# Altium schematic symbol library DG308-2.54-03P-14-00AH.SchLib: 1 symbol
Pins are listed as number, name and electrical type; pins without a type are passive.

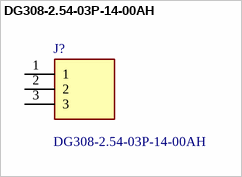
[diagram p0: symbol DG308-2.54-03P-14-00AH]

## DG308-2.54-03P-14-00AH
designator J?
PCB terminal block; angled 90; 2.54mm; ways: 3; on PCBs; 1mm2; Manufacturer_Name: Degson; Geometry.Height: 8.7mm; Manufacturer_Part_Number: DG308-2.54-03P-14-00AH; Mouser Part Number: *; Mouser Price/Stock: *; Arrow Part Number: *; Arrow Price/Stock: *; Datasheet Link: https://static.chipdip.ru/lib/009/DOC004009389.pdf
footprint DG30825403P1400AH
pins: 1, 2, 3